# Altium footprint library MotorControl-V4.01.PcbLib: 26 footprints (part 1 of 2)
Each footprint in its own frame and in the unit in brackets; x right, y up, seen from the top. Pads: shape width x height; smd on the part's side, far side on the other; paste and mask are expansions set on the pad; w line width, h text height; cw(c..) or ccw(c..) is an arc to the next point about the centre after c.
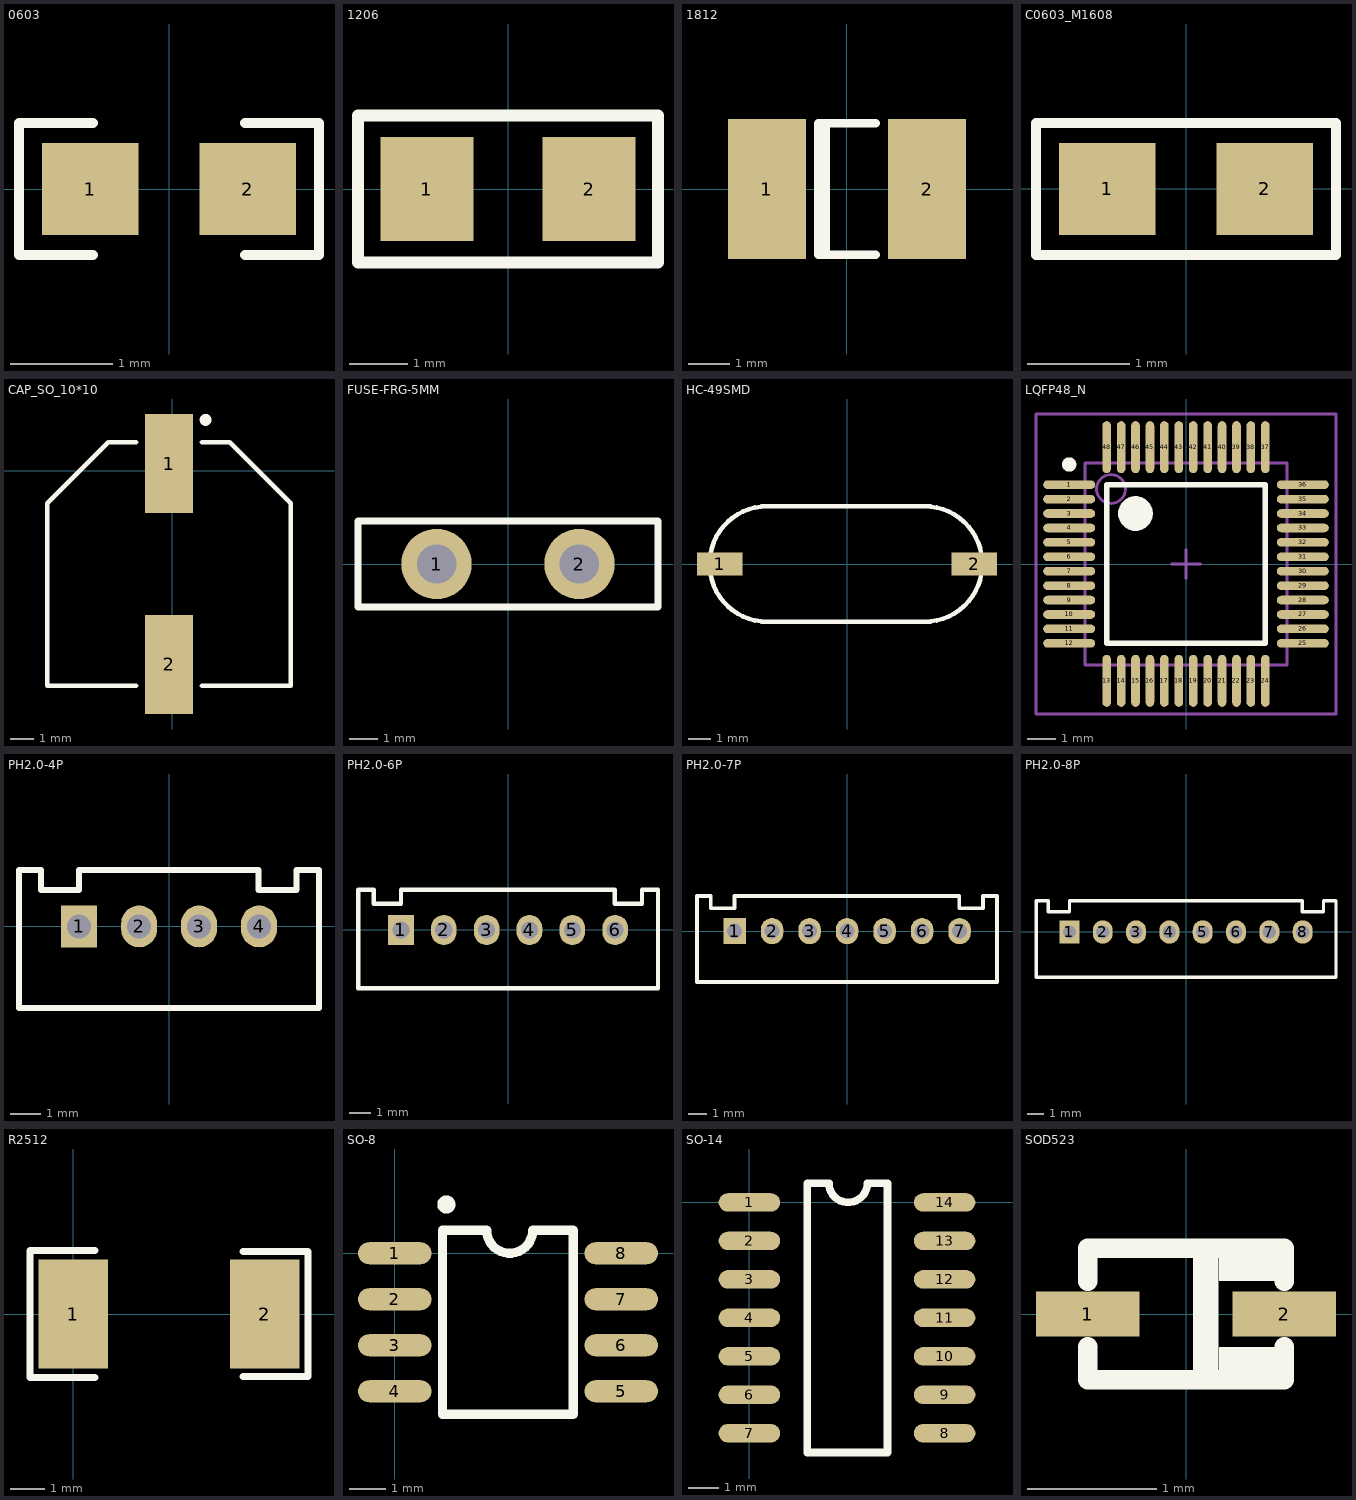
[diagram p0: the footprints below, top view; thin cyan lines are the x and y axes]

## 0603 [mm]
pads (2):
  rect 0.95x0.9 smd: 1(-0.775,0) 2(0.775,0)
Top Overlay:
  lines w0.1: -0.75,-0.65 -1.475,-0.65 -1.475,0.65 -0.75,0.65 ; 0.75,-0.65 1.475,-0.65 1.475,0.65 0.75,0.65

## 1206 [mm] "3216mm"
pads (2):
  rect 1.6x1.8 smd: 1(-1.4,0) 2(1.4,0)
Top Overlay:
  lines w0.2: -2.591,-1.27 -2.591,1.27 2.591,1.27 2.591,-1.27 -2.591,-1.27

## 1812 [mm] "Chip Capacitor; Body 4.5 x 3.2 mm (LxW typ)"
height 1.1
pads (2):
  rect 1.9x3.4 smd: 1(-1.95,0) 2(1.95,0)
Top Overlay:
  lines w0.2: -0.51,-1.6 -0.51,1.6 ; 0.7,-1.6 -0.7,-1.6 -0.7,1.6 0.7,1.6

## C0603_M1608 [mm] "Chip Capacitor, 2-Leads, Body 1.6x0.8mm, IPC Medium Density"
height 0.55
pads (2):
  rect 0.95x0.9 smd: 1(-0.775,0) 2(0.775,0)
Top Overlay:
  lines w0.1: -1.475,-0.65 -1.475,0.65 1.475,0.65 1.475,-0.65 -1.475,-0.65

## CAP_SO_10*10 [mm]
pads (2):
  rect 2.05x4.2 smd: 1(-0.127,0.313) 2(-0.127,-8.187)
Top Overlay:
  circle w0.25: c1.423,2.163 r0.125
  lines w0.2: -1.527,-9.087 -5.277,-9.087 -5.277,-1.362 -2.702,1.213 -1.527,1.213 ; 1.273,-9.087 5.023,-9.087 5.023,-1.362 2.448,1.213 1.273,1.213

## FUSE-FRG-5MM [mm]
pads (2):
  round 2.5 hole 1.4: 1(-2.54,0) 2(2.54,0)
Top Overlay:
  lines w0.254: -5.334,-1.524 5.334,-1.524 5.334,1.524 -5.334,1.524 -5.334,0 -5.334,-1.524

## HC-49SMD [mm]
pads (2):
  rect 2x1 smd: 1(-5.588,0) 2(5.588,0)
Top Overlay:
  lines w0.2: -3.5,-2.54 cw(c-3.5,0) -3.5,2.54 3.4,2.54 cw(c3.4,0) 3.4,-2.54 -3.5,-2.54

## LQFP48_N [mm]
pads (48):
  oval 1.8x0.3 smd: 1(-4.05,2.75) 2(-4.05,2.25) 3(-4.05,1.75) 4(-4.05,1.25) 5(-4.05,0.75) 6(-4.05,0.25) 7(-4.05,-0.25) 8(-4.05,-0.75) 9(-4.05,-1.25) 10(-4.05,-1.75) 11(-4.05,-2.25) 12(-4.05,-2.75) 25(4.05,-2.75) 26(4.05,-2.25) 27(4.05,-1.75) 28(4.05,-1.25) 29(4.05,-0.75) 30(4.05,-0.25) 31(4.05,0.25) 32(4.05,0.75) 33(4.05,1.25) 34(4.05,1.75) 35(4.05,2.25) 36(4.05,2.75)
  oval 0.3x1.8 smd: 13(-2.75,-4.05) 14(-2.25,-4.05) 15(-1.75,-4.05) 16(-1.25,-4.05) 17(-0.75,-4.05) 18(-0.25,-4.05) 19(0.25,-4.05) 20(0.75,-4.05) 21(1.25,-4.05) 22(1.75,-4.05) 23(2.25,-4.05) 24(2.75,-4.05) 37(2.75,4.05) 38(2.25,4.05) 39(1.75,4.05) 40(1.25,4.05) 41(0.75,4.05) 42(0.25,4.05) 43(-0.25,4.05) 44(-0.75,4.05) 45(-1.25,4.05) 46(-1.75,4.05) 47(-2.25,4.05) 48(-2.75,4.05)
Top Overlay:
  circle w0.6: c-1.75,1.75 r0.3
  circle w0.25: c-4.05,3.45 r0.125
  lines w0.2: -2.75,-2.75 2.75,-2.75 2.75,2.75 -2.75,2.75 -2.75,-2.75
Mechanical 13:
  circle w0.1: c-2.6,2.6 r0.5
  lines w0.1: -3.5,-3.5 3.5,-3.5 3.5,3.5 -3.5,3.5 -3.5,-3.5
Mechanical 15:
  lines w0.1: -0.5,0 0.5,0 ; 0,-0.5 0,0.5 ; -5.2,-5.2 5.2,-5.2 5.2,5.2 -5.2,5.2 -5.2,-5.2

## PH2.0-4P [mm]
pads (4):
  rect 1.2x1.4 hole 0.8: 1(-3,0)
  oval 1.2x1.4 hole 0.8: 2(-1,0) 3(1,0) 4(3,0)
Top Overlay:
  lines w0.2: -5.007,-2.718 5,-2.718 ; -5,-2.72 -5,1.88 ; -4.981,1.88 -4.27,1.88 -4.27,1.219 -3,1.219 -3,1.88 ; -2.975,1.88 2.981,1.88 2.981,1.219 4.251,1.219 4.251,1.88 4.988,1.88 ; 5,-2.72 5,1.88

## PH2.0-6P [mm]
pads (6):
  rect 1.2x1.4 hole 0.8: 1(-5,0)
  oval 1.2x1.4 hole 0.8: 2(-3,0) 3(-1,0) 4(1,0) 5(3,0) 6(5,0)
Top Overlay:
  lines w0.2: -7.007,-2.718 7,-2.718 ; -7,-2.72 -7,1.88 ; -6.981,1.88 -6.27,1.88 -6.27,1.219 -5,1.219 -5,1.88 ; -4.975,1.88 4.981,1.88 4.981,1.219 6.251,1.219 6.251,1.88 6.988,1.88 ; 7,-2.72 7,1.88

## PH2.0-7P [mm]
pads (7):
  rect 1.2x1.4 hole 0.8: 1(-6,0)
  oval 1.2x1.4 hole 0.8: 2(-4,0) 3(-2,0) 4(0,0) 5(2,0) 6(4,0) 7(6,0)
Top Overlay:
  lines w0.2: -8.007,-2.718 8,-2.718 ; -8,-2.72 -8,1.88 ; -7.981,1.88 -7.27,1.88 -7.27,1.219 -6,1.219 -6,1.88 ; -5.975,1.88 5.981,1.88 5.981,1.219 7.251,1.219 7.251,1.88 7.988,1.88 ; 8,-2.72 8,1.88

## PH2.0-8P [mm]
pads (8):
  rect 1.2x1.4 hole 0.8: 1(-7,0)
  oval 1.2x1.4 hole 0.8: 2(-5,0) 3(-3,0) 4(-1,0) 5(1,0) 6(3,0) 7(5,0) 8(7,0)
Top Overlay:
  lines w0.2: -9.007,-2.718 9,-2.718 ; -9,-2.72 -9,1.88 ; -8.981,1.88 -8.27,1.88 -8.27,1.219 -7,1.219 -7,1.88 ; -6.975,1.88 6.981,1.88 6.981,1.219 8.251,1.219 8.251,1.88 8.988,1.88 ; 9,-2.72 9,1.88

## R2512 [mil]
pads (2):
  rect 80x125 smd: 1(0,0) 2(220,0)
Top Overlay:
  lines w8: 25,-72.83 -50,-72.83 -50,72.83 25,72.83 ; 195,-71.85 270,-71.85 270,71.85 195,71.85

## SO-8 [mil]
pads (8):
  oval 80x24 smd: 1(0,0) 2(0,-50) 3(0,-100) 4(0,-150) 5(246.18,-150) 6(246.18,-100) 7(246.18,-50) 8(246.18,0)
Top Overlay:
  circle w9.84: c56.08,53 r4.92
  lines w10: 52,-175 194,-175 194,25 149.96,25 cw(c124.96,25) 99.96,25 52,25 52,-175

## SO-14 [mil]
pads (14):
  oval 80x24 smd: 1(0,0) 2(0,-50) 3(0,-100) 4(0,-150) 5(0,-200) 6(0,-250) 7(0,-300) 8(253.66,-300) 9(253.66,-250) 10(253.66,-200) 11(253.66,-150) 12(253.66,-100) 13(253.66,-50) 14(253.66,0)
Top Overlay:
  lines w10: 74.96,-325 74.96,25 103.35,25 ccw(c128.35,25) 153.35,25 179.53,25 179.53,-325 74.96,-325

## SOD523 [mm]
pads (2):
  rect 0.8x0.35 smd: 1(-0.762,0) 2(0.762,0)
Top Overlay:
  rectangle: 0.254,0.254 0.762,0.508
  rectangle: 0.254,-0.508 0.762,-0.254
  lines w0.15: -0.762,-0.254 -0.762,-0.508 0.762,-0.508 0.762,-0.254 ; -0.762,0.254 -0.762,0.508 0.762,0.508 0.762,0.254
  lines w0.2: 0.152,-0.432 0.152,0.457